# EAGLE library part DA1458* (library mylib)
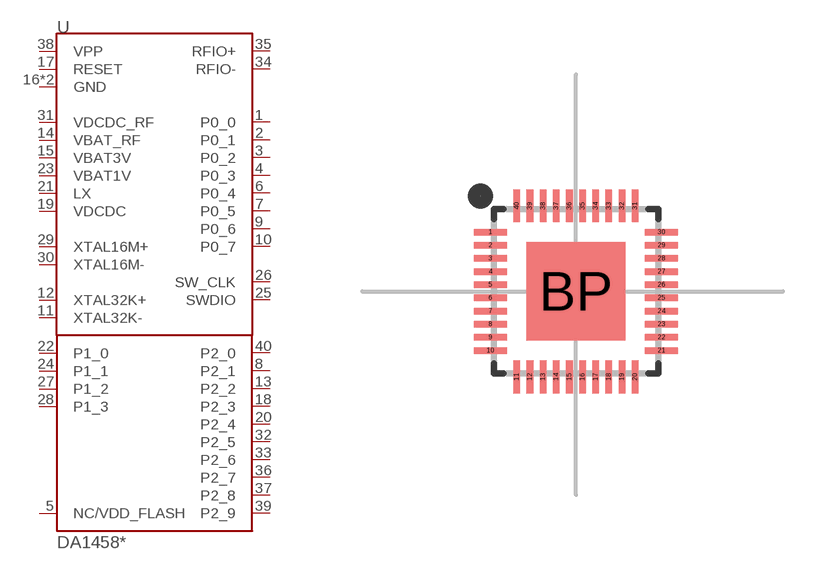
[diagram p96: symbol with the pads of QFN40-0.4P5.0X5.0; footprint QFN40-0.4P5.0X5.0]

Designator prefix U

## DA14580AT2 (MOUSER: 724-DA14580-01AT2), DA14581AT2, DA14583AT2 (MOUSER: 724-DA14583-01AT2)  [QFN40-0.4P5.0X5.0]
1  P0_0
2  P0_1
3  P0_2
4  P0_3
5  NC/VDD_FLASH  pwr
6  P0_4
7  P0_5
8  P2_1
9  P0_6
10  P0_7
11  XTAL32K-
12  XTAL32K+
13  P2_2
14  VBAT_RF  pwr
15  VBAT3V  pwr
16  GND  pwr
17  RESET
18  P2_3
19  VDCDC  pwr
20  P2_4
21  LX
22  P1_0
23  VBAT1V  pwr
24  P1_1
25  SWDIO
26  SW_CLK
27  P1_2
28  P1_3
29  XTAL16M+
30  XTAL16M-
31  VDCDC_RF  pwr
32  P2_5
33  P2_6
34  RFIO-
35  RFIO+
36  P2_7
37  P2_8
38  VPP  pwr
39  P2_9
40  P2_0
BP  GND  pwr

## Footprint QFN40-0.4P5.0X5.0 (pad centres in mm)
smd 1 x 0.2: 1 -2.6,1.8; 2 -2.6,1.4; 3 -2.6,1; 4 -2.6,0.6; 5 -2.6,0.2; 6 -2.6,-0.2; 7 -2.6,-0.6; 8 -2.6,-1; 9 -2.6,-1.4; 10 -2.6,-1.8; 21 2.6,-1.8; 22 2.6,-1.4; 23 2.6,-1; 24 2.6,-0.6; 25 2.6,-0.2; 26 2.6,0.2; 27 2.6,0.6; 28 2.6,1; 29 2.6,1.4; 30 2.6,1.8
smd 0.2 x 1: 11 -1.8,-2.6; 12 -1.4,-2.6; 13 -1,-2.6; 14 -0.6,-2.6; 15 -0.2,-2.6; 16 0.2,-2.6; 17 0.6,-2.6; 18 1,-2.6; 19 1.4,-2.6; 20 1.8,-2.6; 31 1.8,2.6; 32 1.4,2.6; 33 1,2.6; 34 0.6,2.6; 35 0.2,2.6; 36 -0.2,2.6; 37 -0.6,2.6; 38 -1,2.6; 39 -1.4,2.6; 40 -1.8,2.6
smd 3 x 3: BP 0,0